# Altium schematic symbol library 0672984090.SchLib: 1 symbol
Pins are listed as number, name and electrical type; pins without a type are passive.

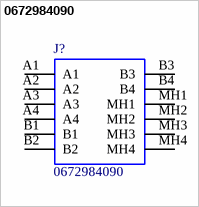
[diagram p0: symbol 0672984090]

## 0672984090
designator J?
Conn USB 2.0 Type A RCP 8 POS 2mm/2.5mm Solder RA Thru-Hole 8 Terminal 2 Port USB Tray; Manufacturer_Name: Molex; Manufacturer_Part_Number: 0672984090; Mouser Part Number: N/A; Mouser Price/Stock: https://www.mouser.co.uk/ProductDetail/Molex/0672984090?qs=PBcRNPEHKspievjVq0oVuQ%3D%3D; Arrow Part Number: 0672984090; Arrow Price/Stock: https://www.arrow.com/en/products/0672984090/molex; Datasheet Link: https://www.molex.com/pdm_docs/sd/672984090_sd.pdf
footprint 0672984090-1
pins: A1, A2, A3, A4, B1, B2, B3, B4, MH1, MH2, MH3, MH4